# Altium schematic symbol library SM07B-SRSS-TBLFSN.SchLib: 1 symbol
Pins are listed as number, name and electrical type; pins without a type are passive.

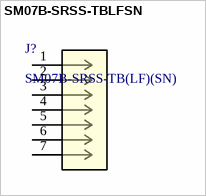
[diagram p0: symbol SM07B-SRSS-TBLFSN]

## SM07B-SRSS-TBLFSN
designator J?, comment SM07B-SRSS-TB(LF)(SN)
No Description Available; Manufacturer_Name: JST; Type: Headers, Male Pins; Copyright: Copyright (C) 2025 Ultra Librarian. All rights reserved.; Manufacturer_Part_Number: SM07B-SRSS-TB(LF)(SN); RefDes: RefDes
footprint CONN_SM07B-SRSS-TB_JST
pins: 1, 2, 3, 4, 5, 6, 7